# EAGLE library part VNH2SP30 (library shc_con)
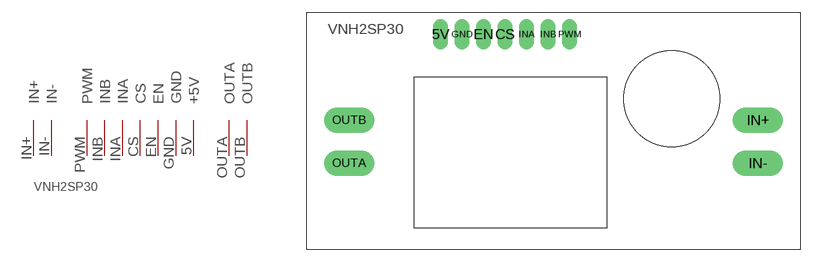
[diagram p2: symbol with the pads of VNH2SP30; footprint VNH2SP30]

Designator prefix -

## VNH2SP30  [VNH2SP30]
5V  +5V
CS  CS
EN  EN
GND  GND
IN+  IN+
IN-  IN-
INA  INA
INB  INB
OUTA  OUTA
OUTB  OUTB
PWM  PWM

## Footprint VNH2SP30 (pad centres in mm)
drill 1.2 long: 5V 10.795,15.24; CS 18.415,15.24; EN 15.875,15.24; GND 13.335,15.24; INA 20.955,15.24; INB 23.495,15.24; PWM 26.035,15.24
drill 2 long: IN+ 48.26,5.08; IN- 48.26,0; OUTA 0,0; OUTB 0,5.08